# EAGLE library part EXBV8V_S (library resistor-array)
EXB Series (0603) - Panasonic 4 Resistors, 8 Terminations
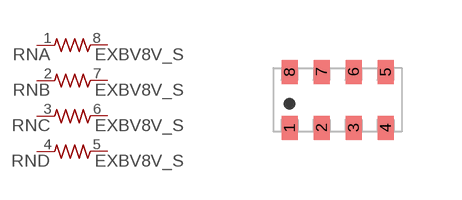
[diagram p19: symbol with the pads of EXBV8V; footprint EXBV8V]

Designator prefix RN; gates A=R1NV B=R1NV C=R1NV D=R1NV

## EXBV8V_S  [EXBV8V]
1  A:1  pas
2  B:1  pas
3  C:1  pas
4  D:1  pas
5  D:2  pas
6  C:2  pas
7  B:2  pas
8  A:2  pas

## Footprint EXBV8V (pad centres in mm)
EXBV4V (0603) - Panasonic
smd 0.4 x 0.6: 1 -1.2,-0.7; 2 -0.4,-0.7; 3 0.4,-0.7; 4 1.2,-0.7; 5 1.2,0.7; 6 0.4,0.7; 7 -0.4,0.7; 8 -1.2,0.7